# Altium schematic symbol library SCH - DIGITAL POT - ANALOG AD5160.SchLib: 1 symbol
Pins are listed as number, name and electrical type; pins without a type are passive.

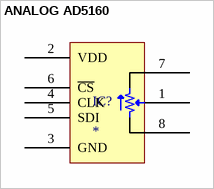
[diagram p0: symbol ANALOG AD5160]

## ANALOG AD5160
designator IC?
pins: 1 W, 2 VDD, 3 GND, 4 CLK, 5 SDI, 6 ~{CS}, 7 A, 8 B